# Altium schematic symbol library Multiple Buck Converter.SchLib: 17 symbols
Pins are listed as number, name and electrical type; pins without a type are passive.

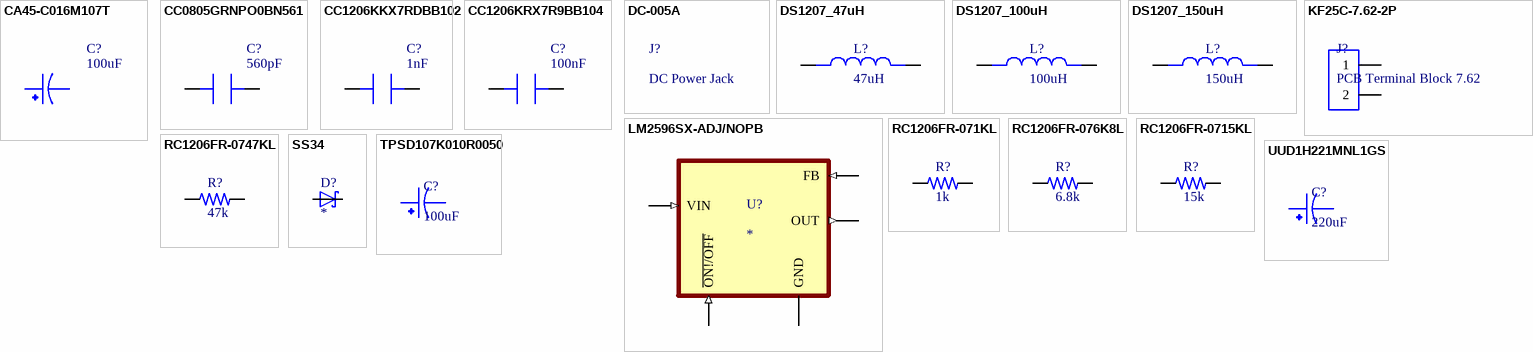
[diagram p0: symbols CA45-C016M107T to UUD1H221MNL1GS]

## CA45-C016M107T
designator C?, comment 100uF
100uF 16V -55℃~+125℃ 1Ω@100kHz ±20% CASE-C_6032 Tantalum Capacitors ROHS; Manufacturer: Hunan Xiangyee in S&T; Manufacturer Part Number: CA45-C016M107T; Package: CASE-C_6032; Value: 100uF; ComponentLink1Description: LCSC; ComponentLink1URL: https://www.lcsc.com/product-detail/Tantalum-Capacitors_Hunan-Xiangyee-in-S-T-CA45-C016M107T_C169226.html
footprint CAPPM6032X280N
pins: 1, 2

## CC0805GRNPO0BN561
designator C?, comment 560pF
100V 560pF NP0 ±2% 0805 Multilayer Ceramic Capacitors MLCC - SMD/SMT ROHS; Manufacturer: YAGEO; Manufacturer Part Number: CC0805GRNPO0BN561; Package: 0805; Value: 560pF; ComponentLink1Description: LCSC; ComponentLink1URL: https://www.lcsc.com/product-detail/Multilayer-Ceramic-Capacitors-MLCC-SMD-SMT_YAGEO-CC0805GRNPO0BN561_C527197.html
footprint C0805
pins: 1 PIN1, 2 PIN2

## CC1206KKX7RDBB102
designator C?, comment 1nF
2kV 1nF X7R ±10% 1206 Multilayer Ceramic Capacitors MLCC - SMD/SMT ROHS; Manufacturer: YAGEO; Manufacturer Part Number: CC1206KKX7RDBB102; Package: 1206; Value: 1nF; ComponentLink1Description: LCSC; ComponentLink1URL: https://www.lcsc.com/product-detail/Multilayer-Ceramic-Capacitors-MLCC-SMD-SMT_YAGEO-CC1206KKX7RDBB102_C23631.html
footprint CAP_1206
pins: 1 PIN1, 2 PIN2

## CC1206KRX7R9BB104
designator C?, comment 100nF
50V 100nF X7R ±10% 1206 Multilayer Ceramic Capacitors MLCC - SMD/SMT ROHS; Manufacturer: YAGEO; Manufacturer Part Number: CC1206KRX7R9BB104; Package: 1206; Value: 100nF; ComponentLink1Description: LCSC; ComponentLink1URL: https://www.lcsc.com/product-detail/Multilayer-Ceramic-Capacitors-MLCC-SMD-SMT_YAGEO-CC1206KRX7R9BB104_C82601.html
footprint CAP_1206
pins: 1 PIN1, 2 PIN2

## DC-005A
designator J?, comment DC Power Jack
Shrouded DC Power Receptacle -20℃~+70℃ 2mm 6.4mm 500mA 30V Plugin AC/DC Power Connectors ROHS

## DS1207_47uH
designator L?, comment 47uH
Shielded Inductor DS1207 47uH; Manufacturer: SPORTON; Manufacturer Part Number: SDS127; Package: SMD; Value: 47uH
footprint DS1207 (Precision Wire Wound Inductor, 2-Leads, Body 12,25x12,25mm, IPC Medium Density)
pins: 1, 2

## DS1207_100uH
designator L?, comment 100uH
Shielded Inductor DS1207 100uH; Manufacturer: SPORTON; Manufacturer Part Number: SDS127; Package: SMD; Value: 100uH
footprint DS1207 (Precision Wire Wound Inductor, 2-Leads, Body 12,25x12,25mm, IPC Medium Density)
pins: 1, 2

## DS1207_150uH
designator L?, comment 150uH
Shielded Inductor DS1207 47uH; Manufacturer: SPORTON; Manufacturer Part Number: SDS127; Package: SMD; Value: 150uH
footprint DS1207 (Precision Wire Wound Inductor, 2-Leads, Body 12,25x12,25mm, IPC Medium Density)
pins: 1, 2

## KF25C-7.62-2P
designator J?, comment PCB Terminal Block 7.62
24A -40℃~+105℃ 250V Black Midfoot Double - Walled(Double) 12~22 Straight pin 2 1 7.62mm 2.5 Straight,P=7.62mm Barrier Terminal Blocks ROHS; Manufacturer: Cixi Kefa Elec; Manufacturer Part Number: KF25C-7.62-2P; Package: Straight, P=7.62-2P; ComponentLink1Description: LCSC; ComponentLink1URL: https://www.lcsc.com/product-detail/Barrier-Terminal-Blocks_Cixi-Kefa-Elec-KF25C-7-62-2P_C707361.html
footprint KF25C-7.62-2P (24A -40?~+105? 250V Black Midfoot Double - Walled(Double) 12~22 Straight pin 2 1 7.62mm 2.5 Straight,P=7.62mm Barrier Terminal Blocks ROHS)
pins: 1, 2

## LM2596SX-ADJ/NOPB
designator U?
SIMPLE SWITCHER&reg; 4.5V to 40V, 3A Low Component Count Step-Down Regulator 5-DDPAK/TO-263 -40 to 125; Manufacturer: UMW(Youtai Semiconductor Co., Ltd.); Manufacturer Part Number: LM2596S-ADJ; Package: TO-263; ComponentLink1Description: LCSC; ComponentLink1URL: https://www.lcsc.com/product-detail/DC-DC-Converters_UMW-Youtai-Semiconductor-Co-Ltd-LM2596S-ADJ_C347423.html
footprint VREG_LM2596SX-ADJ/NOPB
pins: 1 VIN (in), 2 OUT (out), 3 GND (power), 4 FB (in), 5 ~{ON!/OFF} (in)

## RC1206FR-071KL
designator R?, comment 1k
250mW Thick Film Resistors 200V ±100ppm/℃ ±1% -55℃~+155℃ 1kΩ 1206 Chip Resistor - Surface Mount ROHS; Manufacturer: YAGEO; Manufacturer Part Number: RC1206FR-071KL; Value: 1k; Package: 1206; ComponentLink1Description: LCSC; ComponentLink1URL: https://www.lcsc.com/product-detail/Chip-Resistor-Surface-Mount_YAGEO-RC1206FR-071KL_C131398.html
footprint RES_1206
pins: 1, 2

## RC1206FR-076K8L
designator R?, comment 6.8k
250mW Thick Film Resistors 200V ±100ppm/℃ ±1% -55℃~+155℃ 6.8kΩ 1206 Chip Resistor - Surface Mount ROHS; Manufacturer: YAGEO; Manufacturer Part Number: RC1206FR-076K8L; Value: 6.8k; Package: 1206; ComponentLink1Description: LCSC; ComponentLink1URL: https://www.lcsc.com/product-detail/Chip-Resistor-Surface-Mount_YAGEO-RC1206FR-076K8L_C246053.html
footprint RES_1206
pins: 1, 2

## RC1206FR-0715KL
designator R?, comment 15k
250mW Thick Film Resistors 200V ±100ppm/℃ ±1% -55℃~+155℃ 17.4Ω 1206 Chip Resistor - Surface Mount ROHS; Manufacturer: YAGEO; Manufacturer Part Number: RC1206FR-0715KL; Value: 15k; Package: 1206; ComponentLink1Description: LCSC; ComponentLink1URL: https://www.lcsc.com/product-detail/Chip-Resistor-Surface-Mount_YAGEO-RC1206FR-0715KL_C114932.html
footprint RES_1206
pins: 1, 2

## RC1206FR-0747KL
designator R?, comment 47k
250mW Thick Film Resistors 200V ±100ppm/℃ ±1% -55℃~+155℃ 47kΩ 1206 Chip Resistor - Surface Mount ROHS; Manufacturer: YAGEO; Manufacturer Part Number: RC1206FR-0747KL; Value: 47k; Package: 1206; ComponentLink1Description: LCSC; ComponentLink1URL: https://www.lcsc.com/product-detail/Chip-Resistor-Surface-Mount_YAGEO-RC1206FR-0747KL_C137270.html
footprint RES_1206
pins: 1, 2

## SS34
designator D?
0.5mA@40V 40V Single 3A 0.55V@3A SMA(DO-214AC) Schottky Barrier Diodes (SBD) ROHS; Manufacturer: MDD (Microdiode Electronics); Manufacturer Part Number: SS34; Package: SMA(DO-214AC)
footprint SS34-1
pins: A, C

## TPSD107K010R0050
designator C?, comment 100uF
100uF 10V -55℃~+125℃ 50mΩ@100kHz ±10% CASE-D_7343 Tantalum Capacitors ROHS; Manufacturer: Kyocera AVX; Manufacturer Part Number: TPSD107K010R0050; Value: 100uF; Package: CASE-D_7343; ComponentLink1Description: LCSC; ComponentLink1URL: https://www.lcsc.com/product-detail/Tantalum-Capacitors_Kyocera-AVX-TPSD107K010R0050_C313070.html
footprint CAPPM7343X310N
pins: 1, 2

## UUD1H221MNL1GS
designator C?, comment 220uF
-45℃~+105℃ 5000hrs@105℃ 220uF 10mm 50V 10mm ±20% SMD,D10xL10mm Aluminum Electrolytic Capacitors - SMD ROHS; Manufacturer: Nichicon; Manufacturer Part Number: UUD1H221MNL1GS; Package: SMD,D10xL10mm; Value: 220uF; ComponentLink1Description: LCSC; ComponentLink1URL: https://www.lcsc.com/product-detail/Aluminum-Electrolytic-Capacitors-SMD_Nichicon-UUD1H221MNL1GS_C125976.html
footprint CAPAE1030X1080N
pins: 1, 2